# Altium footprint library Connector_Hirose.PcbLib: 136 footprints (part 6 of 9)
Each footprint in its own frame and in the unit in brackets; x right, y up, seen from the top. Pads: shape width x height; smd on the part's side, far side on the other; paste and mask are expansions set on the pad; w line width, h text height; cw(c..) or ccw(c..) is an arc to the next point about the centre after c.
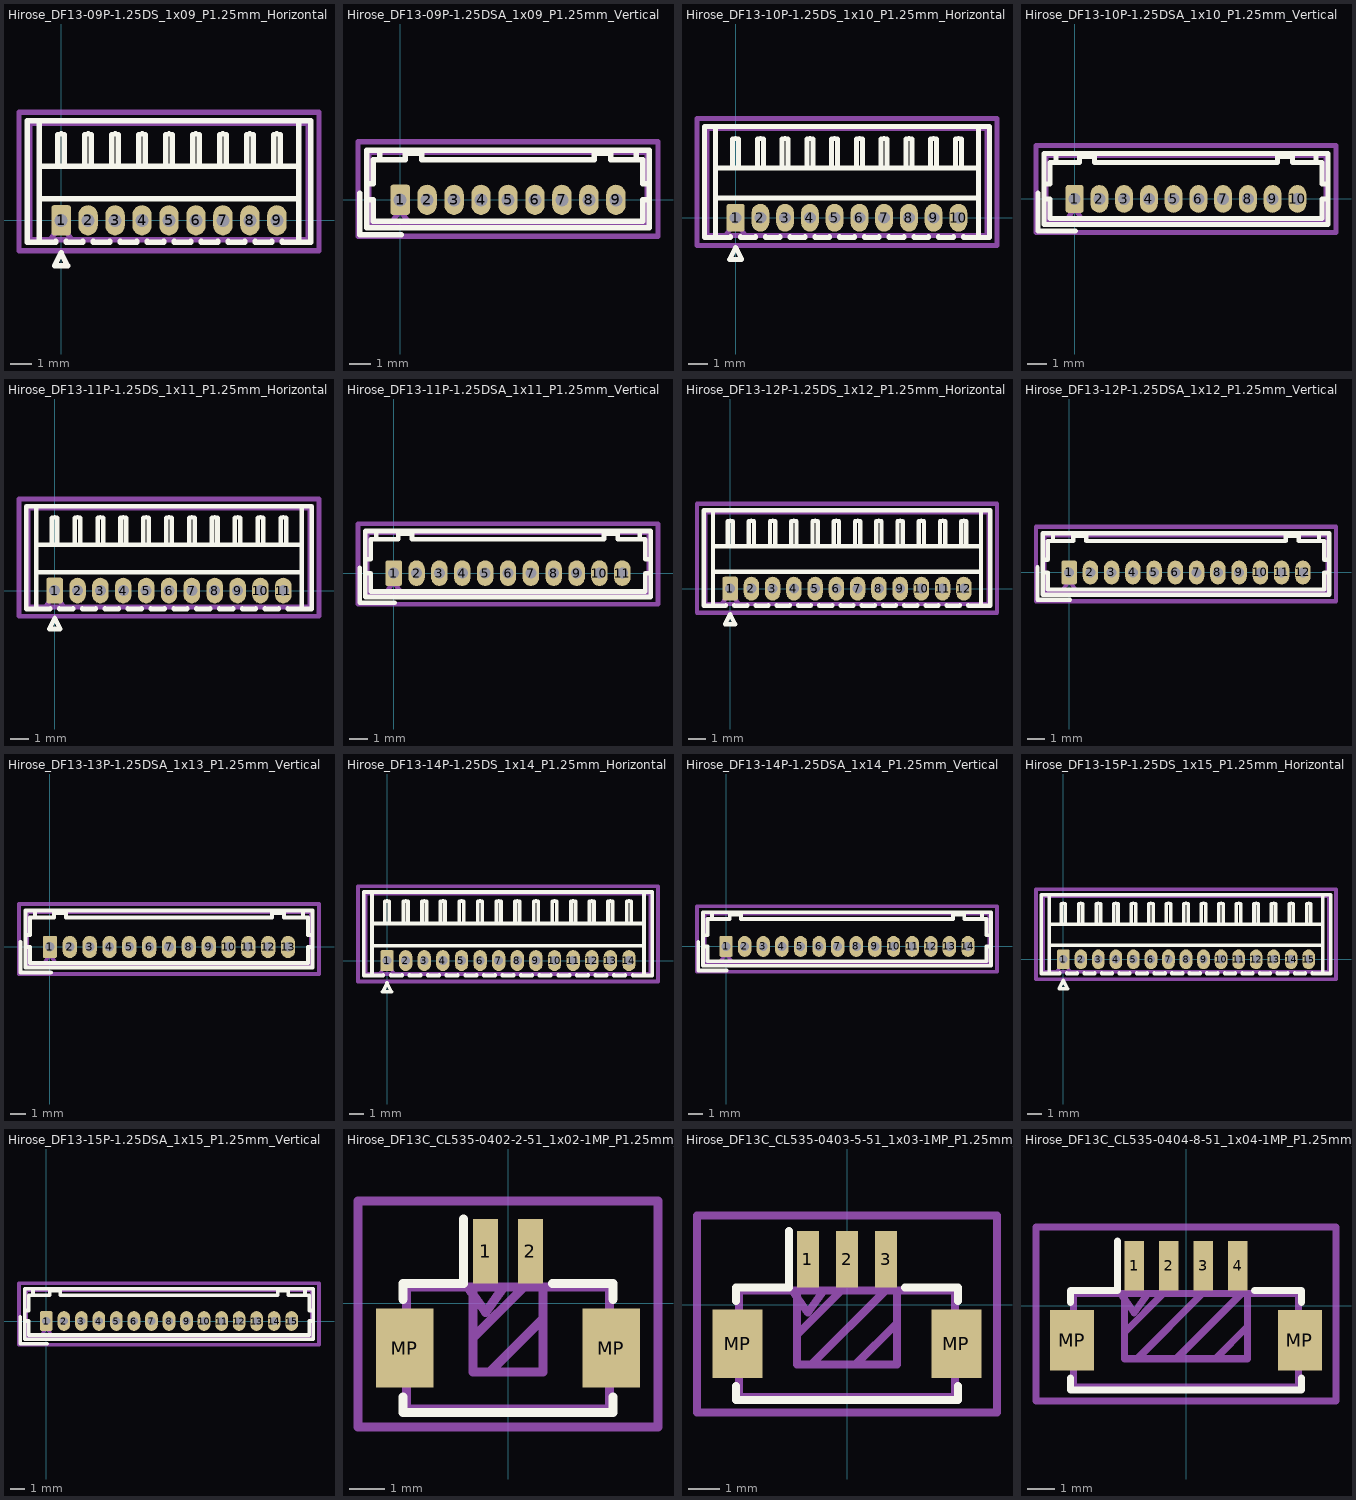
[diagram p5: the footprints below, top view; thin cyan lines are the x and y axes]

## Hirose_DF13-09P-1.25DS_1x09_P1.25mm_Horizontal [mm]
pads (9):
  rrect25% 0.9x1.4 hole 0.6: 1(0,0)
  rrect100% 0.9x1.4 hole 0.6: 2(1.25,0) 3(2.5,0) 4(3.75,0) 5(5,0) 6(6.25,0) 7(7.5,0) 8(8.75,0) 9(10,0)
F.SilkS:
  lines w0.254: -1.01,-1.01 -1.01,4.61 ; -1.01,1 11.01,1 ; -1.01,2.5 11.01,2.5 ; -0.25,-0.96 -0.25,-1.01 -1.56,-1.01 -1.56,4.61 11.56,4.61 11.56,-1.01 10.25,-1.01 10.25,-0.96 ; -0.15,2.5 -0.15,3.962 0,4 0.15,3.962 0.15,2.5 ; 0.25,-0.96 0.25,-1.01 1,-1.01 1,-0.96 ; 1.1,2.5 1.1,3.962 1.25,4 1.4,3.962 1.4,2.5 ; 1.5,-0.96 1.5,-1.01 2.25,-1.01 2.25,-0.96 ; 2.35,2.5 2.35,3.962 2.5,4 2.65,3.962 2.65,2.5 ; 2.75,-0.96 2.75,-1.01 3.5,-1.01 3.5,-0.96 ; 3.6,2.5 3.6,3.962 3.75,4 3.9,3.962 3.9,2.5 ; 4,-0.96 4,-1.01 4.75,-1.01 4.75,-0.96 ; 4.85,2.5 4.85,3.962 5,4 5.15,3.962 5.15,2.5 ; 5.25,-0.96 5.25,-1.01 6,-1.01 6,-0.96 ; 6.1,2.5 6.1,3.962 6.25,4 6.4,3.962 6.4,2.5 ; 6.5,-0.96 6.5,-1.01 7.25,-1.01 7.25,-0.96 ; 7.35,2.5 7.35,3.962 7.5,4 7.65,3.962 7.65,2.5 ; 7.75,-0.96 7.75,-1.01 8.5,-1.01 8.5,-0.96 ; 8.6,2.5 8.6,3.962 8.75,4 8.9,3.962 8.9,2.5 ; 9,-0.96 9,-1.01 9.75,-1.01 9.75,-0.96 ; 9.85,2.5 9.85,3.962 10,4 10.15,3.962 10.15,2.5 ; 11.01,-1.01 11.01,4.61 ; -0.3,-2.1 0,-1.5 0.3,-2.1 -0.3,-2.1
Top Assembly:
  lines w0.254: -0.5,-0.9 0,-0.193 0.5,-0.9 ; -1.45,-0.9 11.45,-0.9 11.45,4.5 -1.45,4.5 -1.45,-0.9
  text "'.Designator'" at 0.953,2.96 h1
Top Courtyard:
  lines w0.254: -1.95,-1.41 11.95,-1.41 11.95,5 -1.95,5 -1.95,-1.41
Top Designator:
  text ".Designator" at -2.618,0.942 h1.52

## Hirose_DF13-09P-1.25DSA_1x09_P1.25mm_Vertical [mm]
pads (9):
  rrect25% 0.9x1.4 hole 0.6: 1(0,0)
  rrect100% 0.9x1.4 hole 0.6: 2(1.25,0) 3(2.5,0) 4(3.75,0) 5(5,0) 6(6.25,0) 7(7.5,0) 8(8.75,0) 9(10,0)
F.SilkS:
  lines w0.254: -1.86,0.3 -1.86,-1.61 0.05,-1.61 ; -1.55,0 -1.25,0 -1.25,-1 11.25,-1 11.25,0 11.55,0 ; -1.55,0.75 -1.25,0.75 -1.25,1.85 -0.95,1.85 ; -0.95,2.3 -0.95,1.85 ; 10.95,2.3 10.95,1.85 ; 11.55,0.75 11.25,0.75 11.25,1.85 10.95,1.85 ; -0.95,1.85 0.25,1.85 0.25,2.15 1,2.15 1,1.85 9,1.85 9,2.15 9.75,2.15 9.75,1.85 10.95,1.85 ; -1.55,-1.3 11.55,-1.3 11.55,2.3 -1.55,2.3 -1.55,-1.3
Top Assembly:
  lines w0.254: -0.5,-1.2 0,-0.493 0.5,-1.2 ; -1.45,-1.2 11.45,-1.2 11.45,2.2 -1.45,2.2 -1.45,-1.2
  text "'.Designator'" at 0.953,0.66 h1
Top Courtyard:
  lines w0.254: -1.95,-1.7 11.95,-1.7 11.95,2.7 -1.95,2.7 -1.95,-1.7
Top Designator:
  text ".Designator" at -2.618,-0.008 h1.52

## Hirose_DF13-10P-1.25DS_1x10_P1.25mm_Horizontal [mm]
pads (10):
  rrect25% 0.9x1.4 hole 0.6: 1(0,0)
  rrect100% 0.9x1.4 hole 0.6: 2(1.25,0) 3(2.5,0) 4(3.75,0) 5(5,0) 6(6.25,0) 7(7.5,0) 8(8.75,0) 9(10,0) 10(11.25,0)
F.SilkS:
  lines w0.254: -1.01,-1.01 -1.01,4.61 ; -1.01,1 12.26,1 ; -1.01,2.5 12.26,2.5 ; -0.25,-0.96 -0.25,-1.01 -1.56,-1.01 -1.56,4.61 12.81,4.61 12.81,-1.01 11.5,-1.01 11.5,-0.96 ; -0.15,2.5 -0.15,3.962 0,4 0.15,3.962 0.15,2.5 ; 0.25,-0.96 0.25,-1.01 1,-1.01 1,-0.96 ; 1.1,2.5 1.1,3.962 1.25,4 1.4,3.962 1.4,2.5 ; 1.5,-0.96 1.5,-1.01 2.25,-1.01 2.25,-0.96 ; 2.35,2.5 2.35,3.962 2.5,4 2.65,3.962 2.65,2.5 ; 2.75,-0.96 2.75,-1.01 3.5,-1.01 3.5,-0.96 ; 3.6,2.5 3.6,3.962 3.75,4 3.9,3.962 3.9,2.5 ; 4,-0.96 4,-1.01 4.75,-1.01 4.75,-0.96 ; 4.85,2.5 4.85,3.962 5,4 5.15,3.962 5.15,2.5 ; 5.25,-0.96 5.25,-1.01 6,-1.01 6,-0.96 ; 6.1,2.5 6.1,3.962 6.25,4 6.4,3.962 6.4,2.5 ; 6.5,-0.96 6.5,-1.01 7.25,-1.01 7.25,-0.96 ; 7.35,2.5 7.35,3.962 7.5,4 7.65,3.962 7.65,2.5 ; 7.75,-0.96 7.75,-1.01 8.5,-1.01 8.5,-0.96 ; 8.6,2.5 8.6,3.962 8.75,4 8.9,3.962 8.9,2.5 ; 9,-0.96 9,-1.01 9.75,-1.01 9.75,-0.96 ; 9.85,2.5 9.85,3.962 10,4 10.15,3.962 10.15,2.5 ; 10.25,-0.96 10.25,-1.01 11,-1.01 11,-0.96 ; 11.1,2.5 11.1,3.962 11.25,4 11.4,3.962 11.4,2.5 ; 12.26,-1.01 12.26,4.61 ; -0.3,-2.1 0,-1.5 0.3,-2.1 -0.3,-2.1
Top Assembly:
  lines w0.254: -0.5,-0.9 0,-0.193 0.5,-0.9 ; -1.45,-0.9 12.7,-0.9 12.7,4.5 -1.45,4.5 -1.45,-0.9
  text "'.Designator'" at 1.573,2.96 h1
Top Courtyard:
  lines w0.254: -1.95,-1.41 13.2,-1.41 13.2,5 -1.95,5 -1.95,-1.41
Top Designator:
  text ".Designator" at -1.993,0.942 h1.52

## Hirose_DF13-10P-1.25DSA_1x10_P1.25mm_Vertical [mm]
pads (10):
  rrect25% 0.9x1.4 hole 0.6: 1(0,0)
  rrect100% 0.9x1.4 hole 0.6: 2(1.25,0) 3(2.5,0) 4(3.75,0) 5(5,0) 6(6.25,0) 7(7.5,0) 8(8.75,0) 9(10,0) 10(11.25,0)
F.SilkS:
  lines w0.254: -1.86,0.3 -1.86,-1.61 0.05,-1.61 ; -1.55,0 -1.25,0 -1.25,-1 12.5,-1 12.5,0 12.8,0 ; -1.55,0.75 -1.25,0.75 -1.25,1.85 -0.95,1.85 ; -0.95,2.3 -0.95,1.85 ; 12.2,2.3 12.2,1.85 ; 12.8,0.75 12.5,0.75 12.5,1.85 12.2,1.85 ; -0.95,1.85 0.25,1.85 0.25,2.15 1,2.15 1,1.85 10.25,1.85 10.25,2.15 11,2.15 11,1.85 12.2,1.85 ; -1.55,-1.3 12.8,-1.3 12.8,2.3 -1.55,2.3 -1.55,-1.3
Top Assembly:
  lines w0.254: -0.5,-1.2 0,-0.493 0.5,-1.2 ; -1.45,-1.2 12.7,-1.2 12.7,2.2 -1.45,2.2 -1.45,-1.2
  text "'.Designator'" at 1.573,0.66 h1
Top Courtyard:
  lines w0.254: -1.95,-1.7 13.2,-1.7 13.2,2.7 -1.95,2.7 -1.95,-1.7
Top Designator:
  text ".Designator" at -1.993,-0.008 h1.52

## Hirose_DF13-11P-1.25DS_1x11_P1.25mm_Horizontal [mm]
pads (11):
  rrect25% 0.9x1.4 hole 0.6: 1(0,0)
  rrect100% 0.9x1.4 hole 0.6: 2(1.25,0) 3(2.5,0) 4(3.75,0) 5(5,0) 6(6.25,0) 7(7.5,0) 8(8.75,0) 9(10,0) 10(11.25,0) 11(12.5,0)
F.SilkS:
  lines w0.254: -1.01,-1.01 -1.01,4.61 ; -1.01,1 13.51,1 ; -1.01,2.5 13.51,2.5 ; -0.25,-0.96 -0.25,-1.01 -1.56,-1.01 -1.56,4.61 14.06,4.61 14.06,-1.01 12.75,-1.01 12.75,-0.96 ; -0.15,2.5 -0.15,3.962 0,4 0.15,3.962 0.15,2.5 ; 0.25,-0.96 0.25,-1.01 1,-1.01 1,-0.96 ; 1.1,2.5 1.1,3.962 1.25,4 1.4,3.962 1.4,2.5 ; 1.5,-0.96 1.5,-1.01 2.25,-1.01 2.25,-0.96 ; 2.35,2.5 2.35,3.962 2.5,4 2.65,3.962 2.65,2.5 ; 2.75,-0.96 2.75,-1.01 3.5,-1.01 3.5,-0.96 ; 3.6,2.5 3.6,3.962 3.75,4 3.9,3.962 3.9,2.5 ; 4,-0.96 4,-1.01 4.75,-1.01 4.75,-0.96 ; 4.85,2.5 4.85,3.962 5,4 5.15,3.962 5.15,2.5 ; 5.25,-0.96 5.25,-1.01 6,-1.01 6,-0.96 ; 6.1,2.5 6.1,3.962 6.25,4 6.4,3.962 6.4,2.5 ; 6.5,-0.96 6.5,-1.01 7.25,-1.01 7.25,-0.96 ; 7.35,2.5 7.35,3.962 7.5,4 7.65,3.962 7.65,2.5 ; 7.75,-0.96 7.75,-1.01 8.5,-1.01 8.5,-0.96 ; 8.6,2.5 8.6,3.962 8.75,4 8.9,3.962 8.9,2.5 ; 9,-0.96 9,-1.01 9.75,-1.01 9.75,-0.96 ; 9.85,2.5 9.85,3.962 10,4 10.15,3.962 10.15,2.5 ; 10.25,-0.96 10.25,-1.01 11,-1.01 11,-0.96 ; 11.1,2.5 11.1,3.962 11.25,4 11.4,3.962 11.4,2.5 ; 11.5,-0.96 11.5,-1.01 12.25,-1.01 12.25,-0.96 ; 12.35,2.5 12.35,3.962 12.5,4 12.65,3.962 12.65,2.5 ; 13.51,-1.01 13.51,4.61 ; -0.3,-2.1 0,-1.5 0.3,-2.1 -0.3,-2.1
Top Assembly:
  lines w0.254: -0.5,-0.9 0,-0.193 0.5,-0.9 ; -1.45,-0.9 13.95,-0.9 13.95,4.5 -1.45,4.5 -1.45,-0.9
  text "'.Designator'" at 2.203,2.96 h1
Top Courtyard:
  lines w0.254: -1.95,-1.41 14.45,-1.41 14.45,5 -1.95,5 -1.95,-1.41
Top Designator:
  text ".Designator" at -1.368,0.942 h1.52

## Hirose_DF13-11P-1.25DSA_1x11_P1.25mm_Vertical [mm]
pads (11):
  rrect25% 0.9x1.4 hole 0.6: 1(0,0)
  rrect100% 0.9x1.4 hole 0.6: 2(1.25,0) 3(2.5,0) 4(3.75,0) 5(5,0) 6(6.25,0) 7(7.5,0) 8(8.75,0) 9(10,0) 10(11.25,0) 11(12.5,0)
F.SilkS:
  lines w0.254: -1.86,0.3 -1.86,-1.61 0.05,-1.61 ; -1.55,0 -1.25,0 -1.25,-1 13.75,-1 13.75,0 14.05,0 ; -1.55,0.75 -1.25,0.75 -1.25,1.85 -0.95,1.85 ; -0.95,2.3 -0.95,1.85 ; 13.45,2.3 13.45,1.85 ; 14.05,0.75 13.75,0.75 13.75,1.85 13.45,1.85 ; -0.95,1.85 0.25,1.85 0.25,2.15 1,2.15 1,1.85 11.5,1.85 11.5,2.15 12.25,2.15 12.25,1.85 13.45,1.85 ; -1.55,-1.3 14.05,-1.3 14.05,2.3 -1.55,2.3 -1.55,-1.3
Top Assembly:
  lines w0.254: -0.5,-1.2 0,-0.493 0.5,-1.2 ; -1.45,-1.2 13.95,-1.2 13.95,2.2 -1.45,2.2 -1.45,-1.2
  text "'.Designator'" at 2.203,0.66 h1
Top Courtyard:
  lines w0.254: -1.95,-1.7 14.45,-1.7 14.45,2.7 -1.95,2.7 -1.95,-1.7
Top Designator:
  text ".Designator" at -1.368,-0.008 h1.52

## Hirose_DF13-12P-1.25DS_1x12_P1.25mm_Horizontal [mm]
pads (12):
  rrect25% 0.9x1.4 hole 0.6: 1(0,0)
  rrect100% 0.9x1.4 hole 0.6: 2(1.25,0) 3(2.5,0) 4(3.75,0) 5(5,0) 6(6.25,0) 7(7.5,0) 8(8.75,0) 9(10,0) 10(11.25,0) 11(12.5,0) 12(13.75,0)
F.SilkS:
  lines w0.254: -1.01,-1.01 -1.01,4.61 ; -1.01,1 14.76,1 ; -1.01,2.5 14.76,2.5 ; -0.25,-0.96 -0.25,-1.01 -1.56,-1.01 -1.56,4.61 15.31,4.61 15.31,-1.01 14,-1.01 14,-0.96 ; -0.15,2.5 -0.15,3.962 0,4 0.15,3.962 0.15,2.5 ; 0.25,-0.96 0.25,-1.01 1,-1.01 1,-0.96 ; 1.1,2.5 1.1,3.962 1.25,4 1.4,3.962 1.4,2.5 ; 1.5,-0.96 1.5,-1.01 2.25,-1.01 2.25,-0.96 ; 2.35,2.5 2.35,3.962 2.5,4 2.65,3.962 2.65,2.5 ; 2.75,-0.96 2.75,-1.01 3.5,-1.01 3.5,-0.96 ; 3.6,2.5 3.6,3.962 3.75,4 3.9,3.962 3.9,2.5 ; 4,-0.96 4,-1.01 4.75,-1.01 4.75,-0.96 ; 4.85,2.5 4.85,3.962 5,4 5.15,3.962 5.15,2.5 ; 5.25,-0.96 5.25,-1.01 6,-1.01 6,-0.96 ; 6.1,2.5 6.1,3.962 6.25,4 6.4,3.962 6.4,2.5 ; 6.5,-0.96 6.5,-1.01 7.25,-1.01 7.25,-0.96 ; 7.35,2.5 7.35,3.962 7.5,4 7.65,3.962 7.65,2.5 ; 7.75,-0.96 7.75,-1.01 8.5,-1.01 8.5,-0.96 ; 8.6,2.5 8.6,3.962 8.75,4 8.9,3.962 8.9,2.5 ; 9,-0.96 9,-1.01 9.75,-1.01 9.75,-0.96 ; 9.85,2.5 9.85,3.962 10,4 10.15,3.962 10.15,2.5 ; 10.25,-0.96 10.25,-1.01 11,-1.01 11,-0.96 ; 11.1,2.5 11.1,3.962 11.25,4 11.4,3.962 11.4,2.5 ; 11.5,-0.96 11.5,-1.01 12.25,-1.01 12.25,-0.96 ; 12.35,2.5 12.35,3.962 12.5,4 12.65,3.962 12.65,2.5 ; 12.75,-0.96 12.75,-1.01 13.5,-1.01 13.5,-0.96 ; 13.6,2.5 13.6,3.962 13.75,4 13.9,3.962 13.9,2.5 ; 14.76,-1.01 14.76,4.61 ; -0.3,-2.1 0,-1.5 0.3,-2.1 -0.3,-2.1
Top Assembly:
  lines w0.254: -0.5,-0.9 0,-0.193 0.5,-0.9 ; -1.45,-0.9 15.2,-0.9 15.2,4.5 -1.45,4.5 -1.45,-0.9
  text "'.Designator'" at 2.833,2.96 h1
Top Courtyard:
  lines w0.254: -1.95,-1.41 15.7,-1.41 15.7,5 -1.95,5 -1.95,-1.41
Top Designator:
  text ".Designator" at -0.743,0.942 h1.52

## Hirose_DF13-12P-1.25DSA_1x12_P1.25mm_Vertical [mm]
pads (12):
  rrect25% 0.9x1.4 hole 0.6: 1(0,0)
  rrect100% 0.9x1.4 hole 0.6: 2(1.25,0) 3(2.5,0) 4(3.75,0) 5(5,0) 6(6.25,0) 7(7.5,0) 8(8.75,0) 9(10,0) 10(11.25,0) 11(12.5,0) 12(13.75,0)
F.SilkS:
  lines w0.254: -1.86,0.3 -1.86,-1.61 0.05,-1.61 ; -1.55,0 -1.25,0 -1.25,-1 15,-1 15,0 15.3,0 ; -1.55,0.75 -1.25,0.75 -1.25,1.85 -0.95,1.85 ; -0.95,2.3 -0.95,1.85 ; 14.7,2.3 14.7,1.85 ; 15.3,0.75 15,0.75 15,1.85 14.7,1.85 ; -0.95,1.85 0.25,1.85 0.25,2.15 1,2.15 1,1.85 12.75,1.85 12.75,2.15 13.5,2.15 13.5,1.85 14.7,1.85 ; -1.55,-1.3 15.3,-1.3 15.3,2.3 -1.55,2.3 -1.55,-1.3
Top Assembly:
  lines w0.254: -0.5,-1.2 0,-0.493 0.5,-1.2 ; -1.45,-1.2 15.2,-1.2 15.2,2.2 -1.45,2.2 -1.45,-1.2
  text "'.Designator'" at 2.833,0.66 h1
Top Courtyard:
  lines w0.254: -1.95,-1.7 15.7,-1.7 15.7,2.7 -1.95,2.7 -1.95,-1.7
Top Designator:
  text ".Designator" at -0.743,-0.008 h1.52

## Hirose_DF13-13P-1.25DSA_1x13_P1.25mm_Vertical [mm]
pads (13):
  rrect25% 0.9x1.4 hole 0.6: 1(0,0)
  rrect100% 0.9x1.4 hole 0.6: 2(1.25,0) 3(2.5,0) 4(3.75,0) 5(5,0) 6(6.25,0) 7(7.5,0) 8(8.75,0) 9(10,0) 10(11.25,0) 11(12.5,0) 12(13.75,0) 13(15,0)
F.SilkS:
  lines w0.254: -1.86,0.3 -1.86,-1.61 0.05,-1.61 ; -1.55,0 -1.25,0 -1.25,-1 16.25,-1 16.25,0 16.55,0 ; -1.55,0.75 -1.25,0.75 -1.25,1.85 -0.95,1.85 ; -0.95,2.3 -0.95,1.85 ; 15.95,2.3 15.95,1.85 ; 16.55,0.75 16.25,0.75 16.25,1.85 15.95,1.85 ; -0.95,1.85 0.25,1.85 0.25,2.15 1,2.15 1,1.85 14,1.85 14,2.15 14.75,2.15 14.75,1.85 15.95,1.85 ; -1.55,-1.3 16.55,-1.3 16.55,2.3 -1.55,2.3 -1.55,-1.3
Top Assembly:
  lines w0.254: -0.5,-1.2 0,-0.493 0.5,-1.2 ; -1.45,-1.2 16.45,-1.2 16.45,2.2 -1.45,2.2 -1.45,-1.2
  text "'.Designator'" at 3.453,0.66 h1
Top Courtyard:
  lines w0.254: -1.95,-1.7 16.95,-1.7 16.95,2.7 -1.95,2.7 -1.95,-1.7
Top Designator:
  text ".Designator" at -0.118,-0.008 h1.52

## Hirose_DF13-14P-1.25DS_1x14_P1.25mm_Horizontal [mm]
pads (14):
  rrect25% 0.9x1.4 hole 0.6: 1(0,0)
  rrect100% 0.9x1.4 hole 0.6: 2(1.25,0) 3(2.5,0) 4(3.75,0) 5(5,0) 6(6.25,0) 7(7.5,0) 8(8.75,0) 9(10,0) 10(11.25,0) 11(12.5,0) 12(13.75,0) 13(15,0) 14(16.25,0)
F.SilkS:
  lines w0.254: -1.01,-1.01 -1.01,4.61 ; -1.01,1 17.26,1 ; -1.01,2.5 17.26,2.5 ; -0.25,-0.96 -0.25,-1.01 -1.56,-1.01 -1.56,4.61 17.81,4.61 17.81,-1.01 16.5,-1.01 16.5,-0.96 ; -0.15,2.5 -0.15,3.962 0,4 0.15,3.962 0.15,2.5 ; 0.25,-0.96 0.25,-1.01 1,-1.01 1,-0.96 ; 1.1,2.5 1.1,3.962 1.25,4 1.4,3.962 1.4,2.5 ; 1.5,-0.96 1.5,-1.01 2.25,-1.01 2.25,-0.96 ; 2.35,2.5 2.35,3.962 2.5,4 2.65,3.962 2.65,2.5 ; 2.75,-0.96 2.75,-1.01 3.5,-1.01 3.5,-0.96 ; 3.6,2.5 3.6,3.962 3.75,4 3.9,3.962 3.9,2.5 ; 4,-0.96 4,-1.01 4.75,-1.01 4.75,-0.96 ; 4.85,2.5 4.85,3.962 5,4 5.15,3.962 5.15,2.5 ; 5.25,-0.96 5.25,-1.01 6,-1.01 6,-0.96 ; 6.1,2.5 6.1,3.962 6.25,4 6.4,3.962 6.4,2.5 ; 6.5,-0.96 6.5,-1.01 7.25,-1.01 7.25,-0.96 ; 7.35,2.5 7.35,3.962 7.5,4 7.65,3.962 7.65,2.5 ; 7.75,-0.96 7.75,-1.01 8.5,-1.01 8.5,-0.96 ; 8.6,2.5 8.6,3.962 8.75,4 8.9,3.962 8.9,2.5 ; 9,-0.96 9,-1.01 9.75,-1.01 9.75,-0.96 ; 9.85,2.5 9.85,3.962 10,4 10.15,3.962 10.15,2.5 ; 10.25,-0.96 10.25,-1.01 11,-1.01 11,-0.96 ; 11.1,2.5 11.1,3.962 11.25,4 11.4,3.962 11.4,2.5 ; 11.5,-0.96 11.5,-1.01 12.25,-1.01 12.25,-0.96 ; 12.35,2.5 12.35,3.962 12.5,4 12.65,3.962 12.65,2.5 ; 12.75,-0.96 12.75,-1.01 13.5,-1.01 13.5,-0.96 ; 13.6,2.5 13.6,3.962 13.75,4 13.9,3.962 13.9,2.5 ; 14,-0.96 14,-1.01 14.75,-1.01 14.75,-0.96 ; 14.85,2.5 14.85,3.962 15,4 15.15,3.962 15.15,2.5 ; 15.25,-0.96 15.25,-1.01 16,-1.01 16,-0.96 ; 16.1,2.5 16.1,3.962 16.25,4 16.4,3.962 16.4,2.5 ; 17.26,-1.01 17.26,4.61 ; -0.3,-2.1 0,-1.5 0.3,-2.1 -0.3,-2.1
Top Assembly:
  lines w0.254: -0.5,-0.9 0,-0.193 0.5,-0.9 ; -1.45,-0.9 17.7,-0.9 17.7,4.5 -1.45,4.5 -1.45,-0.9
  text "'.Designator'" at 4.073,2.96 h1
Top Courtyard:
  lines w0.254: -1.95,-1.41 18.2,-1.41 18.2,5 -1.95,5 -1.95,-1.41
Top Designator:
  text ".Designator" at 0.507,0.942 h1.52

## Hirose_DF13-14P-1.25DSA_1x14_P1.25mm_Vertical [mm]
pads (14):
  rrect25% 0.9x1.4 hole 0.6: 1(0,0)
  rrect100% 0.9x1.4 hole 0.6: 2(1.25,0) 3(2.5,0) 4(3.75,0) 5(5,0) 6(6.25,0) 7(7.5,0) 8(8.75,0) 9(10,0) 10(11.25,0) 11(12.5,0) 12(13.75,0) 13(15,0) 14(16.25,0)
F.SilkS:
  lines w0.254: -1.86,0.3 -1.86,-1.61 0.05,-1.61 ; -1.55,0 -1.25,0 -1.25,-1 17.5,-1 17.5,0 17.8,0 ; -1.55,0.75 -1.25,0.75 -1.25,1.85 -0.95,1.85 ; -0.95,2.3 -0.95,1.85 ; 17.2,2.3 17.2,1.85 ; 17.8,0.75 17.5,0.75 17.5,1.85 17.2,1.85 ; -0.95,1.85 0.25,1.85 0.25,2.15 1,2.15 1,1.85 15.25,1.85 15.25,2.15 16,2.15 16,1.85 17.2,1.85 ; -1.55,-1.3 17.8,-1.3 17.8,2.3 -1.55,2.3 -1.55,-1.3
Top Assembly:
  lines w0.254: -0.5,-1.2 0,-0.493 0.5,-1.2 ; -1.45,-1.2 17.7,-1.2 17.7,2.2 -1.45,2.2 -1.45,-1.2
  text "'.Designator'" at 4.073,0.66 h1
Top Courtyard:
  lines w0.254: -1.95,-1.7 18.2,-1.7 18.2,2.7 -1.95,2.7 -1.95,-1.7
Top Designator:
  text ".Designator" at 0.507,-0.008 h1.52

## Hirose_DF13-15P-1.25DS_1x15_P1.25mm_Horizontal [mm]
pads (15):
  rrect25% 0.9x1.4 hole 0.6: 1(0,0)
  rrect100% 0.9x1.4 hole 0.6: 2(1.25,0) 3(2.5,0) 4(3.75,0) 5(5,0) 6(6.25,0) 7(7.5,0) 8(8.75,0) 9(10,0) 10(11.25,0) 11(12.5,0) 12(13.75,0) 13(15,0) 14(16.25,0) 15(17.5,0)
F.SilkS:
  lines w0.254: -1.01,-1.01 -1.01,4.61 ; -1.01,1 18.51,1 ; -1.01,2.5 18.51,2.5 ; -0.25,-0.96 -0.25,-1.01 -1.56,-1.01 -1.56,4.61 19.06,4.61 19.06,-1.01 17.75,-1.01 17.75,-0.96 ; -0.15,2.5 -0.15,3.962 0,4 0.15,3.962 0.15,2.5 ; 0.25,-0.96 0.25,-1.01 1,-1.01 1,-0.96 ; 1.1,2.5 1.1,3.962 1.25,4 1.4,3.962 1.4,2.5 ; 1.5,-0.96 1.5,-1.01 2.25,-1.01 2.25,-0.96 ; 2.35,2.5 2.35,3.962 2.5,4 2.65,3.962 2.65,2.5 ; 2.75,-0.96 2.75,-1.01 3.5,-1.01 3.5,-0.96 ; 3.6,2.5 3.6,3.962 3.75,4 3.9,3.962 3.9,2.5 ; 4,-0.96 4,-1.01 4.75,-1.01 4.75,-0.96 ; 4.85,2.5 4.85,3.962 5,4 5.15,3.962 5.15,2.5 ; 5.25,-0.96 5.25,-1.01 6,-1.01 6,-0.96 ; 6.1,2.5 6.1,3.962 6.25,4 6.4,3.962 6.4,2.5 ; 6.5,-0.96 6.5,-1.01 7.25,-1.01 7.25,-0.96 ; 7.35,2.5 7.35,3.962 7.5,4 7.65,3.962 7.65,2.5 ; 7.75,-0.96 7.75,-1.01 8.5,-1.01 8.5,-0.96 ; 8.6,2.5 8.6,3.962 8.75,4 8.9,3.962 8.9,2.5 ; 9,-0.96 9,-1.01 9.75,-1.01 9.75,-0.96 ; 9.85,2.5 9.85,3.962 10,4 10.15,3.962 10.15,2.5 ; 10.25,-0.96 10.25,-1.01 11,-1.01 11,-0.96 ; 11.1,2.5 11.1,3.962 11.25,4 11.4,3.962 11.4,2.5 ; 11.5,-0.96 11.5,-1.01 12.25,-1.01 12.25,-0.96 ; 12.35,2.5 12.35,3.962 12.5,4 12.65,3.962 12.65,2.5 ; 12.75,-0.96 12.75,-1.01 13.5,-1.01 13.5,-0.96 ; 13.6,2.5 13.6,3.962 13.75,4 13.9,3.962 13.9,2.5 ; 14,-0.96 14,-1.01 14.75,-1.01 14.75,-0.96 ; 14.85,2.5 14.85,3.962 15,4 15.15,3.962 15.15,2.5 ; 15.25,-0.96 15.25,-1.01 16,-1.01 16,-0.96 ; 16.1,2.5 16.1,3.962 16.25,4 16.4,3.962 16.4,2.5 ; 16.5,-0.96 16.5,-1.01 17.25,-1.01 17.25,-0.96 ; 17.35,2.5 17.35,3.962 17.5,4 17.65,3.962 17.65,2.5 ; 18.51,-1.01 18.51,4.61 ; -0.3,-2.1 0,-1.5 0.3,-2.1 -0.3,-2.1
Top Assembly:
  lines w0.254: -0.5,-0.9 0,-0.193 0.5,-0.9 ; -1.45,-0.9 18.95,-0.9 18.95,4.5 -1.45,4.5 -1.45,-0.9
  text "'.Designator'" at 4.703,2.96 h1
Top Courtyard:
  lines w0.254: -1.95,-1.41 19.45,-1.41 19.45,5 -1.95,5 -1.95,-1.41
Top Designator:
  text ".Designator" at 1.132,0.942 h1.52

## Hirose_DF13-15P-1.25DSA_1x15_P1.25mm_Vertical [mm]
pads (15):
  rrect25% 0.9x1.4 hole 0.6: 1(0,0)
  rrect100% 0.9x1.4 hole 0.6: 2(1.25,0) 3(2.5,0) 4(3.75,0) 5(5,0) 6(6.25,0) 7(7.5,0) 8(8.75,0) 9(10,0) 10(11.25,0) 11(12.5,0) 12(13.75,0) 13(15,0) 14(16.25,0) 15(17.5,0)
F.SilkS:
  lines w0.254: -1.86,0.3 -1.86,-1.61 0.05,-1.61 ; -1.55,0 -1.25,0 -1.25,-1 18.75,-1 18.75,0 19.05,0 ; -1.55,0.75 -1.25,0.75 -1.25,1.85 -0.95,1.85 ; -0.95,2.3 -0.95,1.85 ; 18.45,2.3 18.45,1.85 ; 19.05,0.75 18.75,0.75 18.75,1.85 18.45,1.85 ; -0.95,1.85 0.25,1.85 0.25,2.15 1,2.15 1,1.85 16.5,1.85 16.5,2.15 17.25,2.15 17.25,1.85 18.45,1.85 ; -1.55,-1.3 19.05,-1.3 19.05,2.3 -1.55,2.3 -1.55,-1.3
Top Assembly:
  lines w0.254: -0.5,-1.2 0,-0.493 0.5,-1.2 ; -1.45,-1.2 18.95,-1.2 18.95,2.2 -1.45,2.2 -1.45,-1.2
  text "'.Designator'" at 4.703,0.66 h1
Top Courtyard:
  lines w0.254: -1.95,-1.7 19.45,-1.7 19.45,2.7 -1.95,2.7 -1.95,-1.7
Top Designator:
  text ".Designator" at 1.132,-0.008 h1.52

## Hirose_DF13C_CL535-0402-2-51_1x02-1MP_P1.25mm_Vertical [mm]
pads (4):
  rect 0.7x1.8 smd: 1(-0.625,1.45) 2(0.625,1.45)
  rect 1.6x2.2 smd: MP(-2.875,-1.25) MP(2.875,-1.25)
F.SilkS:
  lines w0.254: -2.925,-2.61 -2.925,-3.05 2.925,-3.05 2.925,-2.61 ; -2.925,0.11 -2.925,0.55 -1.235,0.55 -1.235,2.35 ; 1.235,0.55 2.925,0.55 2.925,0.11
Top Assembly:
  lines w0.254: -1.125,0.45 -0.625,-0.257 -0.125,0.45 ; -2.825,-2.95 2.825,-2.95 2.825,0.45 -2.825,0.45 -2.825,-2.95
  text "'.Designator'" at -4.047,-3.09 h1
Top Courtyard:
  lines w0.254: -4.18,-3.45 4.18,-3.45 4.18,2.85 -4.18,2.85 -4.18,-3.45
Top Designator:
  text ".Designator" at -7.618,-0.808 h1.52
Dwgs.User:
  lines w0.254: -0.975,-0.964 0.439,0.45 ; -0.517,-1.92 0.975,-0.428 ; 0.898,-1.92 0.975,-1.843 ; -0.975,-1.92 0.975,-1.92 0.975,0.45 -0.975,0.45 -0.975,-1.92
Cmts.User:
  text "KEEPOUT" at 0.221,-1.798 h0.34

## Hirose_DF13C_CL535-0403-5-51_1x03-1MP_P1.25mm_Vertical [mm]
pads (5):
  rect 0.7x1.8 smd: 1(-1.25,1.45) 2(0,1.45) 3(1.25,1.45)
  rect 1.6x2.2 smd: MP(-3.5,-1.25) MP(3.5,-1.25)
F.SilkS:
  lines w0.254: -3.55,-2.61 -3.55,-3.05 3.55,-3.05 3.55,-2.61 ; -3.55,0.11 -3.55,0.55 -1.86,0.55 -1.86,2.35 ; 1.86,0.55 3.55,0.55 3.55,0.11
Top Assembly:
  lines w0.254: -1.75,0.45 -1.25,-0.257 -0.75,0.45 ; -3.45,-2.95 3.45,-2.95 3.45,0.45 -3.45,0.45 -3.45,-2.95
  text "'.Designator'" at -4.047,-3.09 h1
Top Courtyard:
  lines w0.254: -4.8,-3.45 4.8,-3.45 4.8,2.85 -4.8,2.85 -4.8,-3.45
Top Designator:
  text ".Designator" at -7.618,-0.808 h1.52
Dwgs.User:
  lines w0.254: -1.6,-0.964 -0.186,0.45 ; -1.142,-1.92 1.228,0.45 ; 0.273,-1.92 1.6,-0.593 ; -1.6,-1.92 1.6,-1.92 1.6,0.45 -1.6,0.45 -1.6,-1.92
Cmts.User:
  text "KEEPOUT" at -1.439,-1.034 h0.46

## Hirose_DF13C_CL535-0404-8-51_1x04-1MP_P1.25mm_Vertical [mm]
pads (6):
  rect 0.7x1.8 smd: 1(-1.875,1.45) 2(-0.625,1.45) 3(0.625,1.45) 4(1.875,1.45)
  rect 1.6x2.2 smd: MP(-4.125,-1.25) MP(4.125,-1.25)
F.SilkS:
  lines w0.254: -4.175,-2.61 -4.175,-3.05 4.175,-3.05 4.175,-2.61 ; -4.175,0.11 -4.175,0.55 -2.485,0.55 -2.485,2.35 ; 2.485,0.55 4.175,0.55 4.175,0.11
Top Assembly:
  lines w0.254: -2.375,0.45 -1.875,-0.257 -1.375,0.45 ; -4.075,-2.95 4.075,-2.95 4.075,0.45 -4.075,0.45 -4.075,-2.95
  text "'.Designator'" at -4.047,-3.09 h1
Top Courtyard:
  lines w0.254: -5.43,-3.45 5.43,-3.45 5.43,2.85 -5.43,2.85 -5.43,-3.45
Top Designator:
  text ".Designator" at -7.618,-0.808 h1.52
Dwgs.User:
  lines w0.254: -2.225,-0.964 -0.811,0.45 ; -1.767,-1.92 0.603,0.45 ; -0.352,-1.92 2.018,0.45 ; 1.062,-1.92 2.225,-0.757 ; -2.225,-1.92 2.225,-1.92 2.225,0.45 -2.225,0.45 -2.225,-1.92
Cmts.User:
  text "KEEPOUT" at -2.002,-1.151 h0.64